# Altium footprint library Inductor_SMD.PcbLib: 259 footprints (part 9 of 17)
Each footprint in its own frame and in the unit in brackets; x right, y up, seen from the top. Pads: shape width x height; smd on the part's side, far side on the other; paste and mask are expansions set on the pad; w line width, h text height; cw(c..) or ccw(c..) is an arc to the next point about the centre after c.
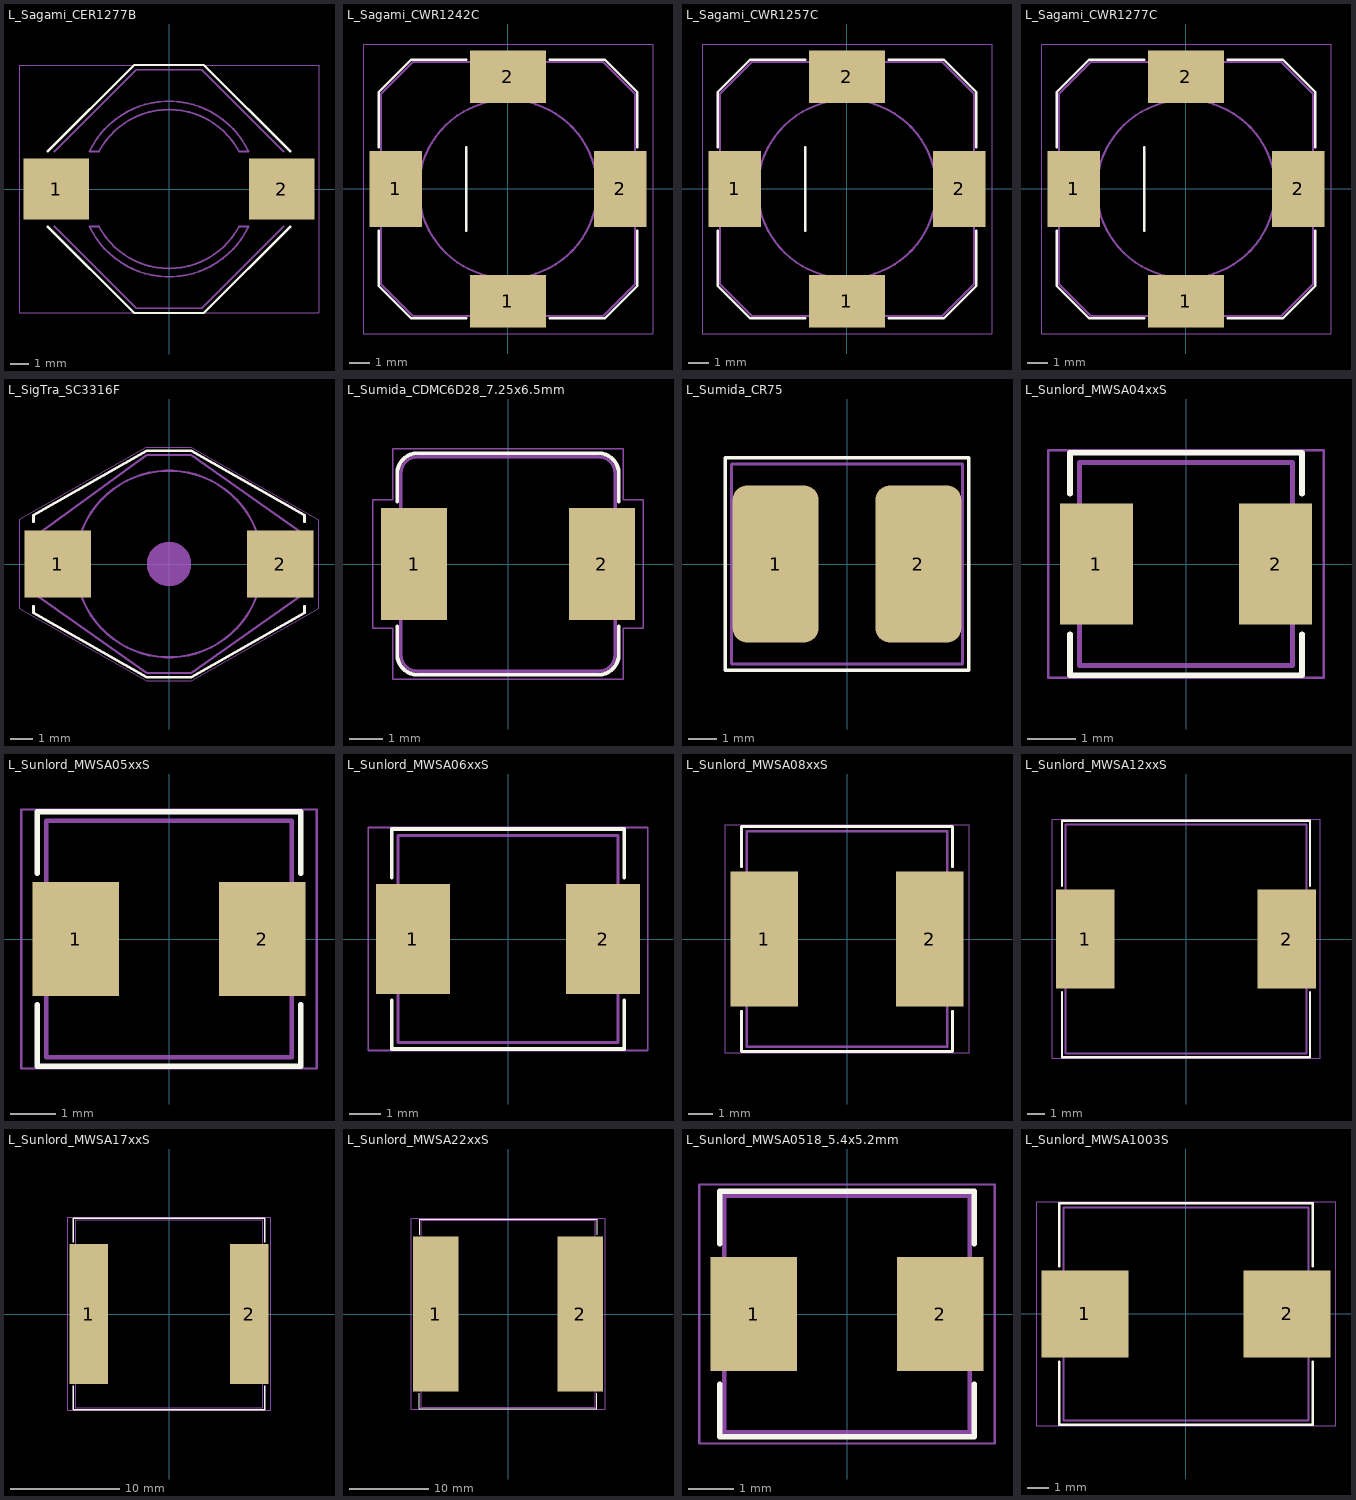
[diagram p8: the footprints below, top view; thin cyan lines are the x and y axes]

## L_Sagami_CER1277B [mm]
pads (2):
  rect 3.55x3.3 smd: 1(-6.125,0) 2(6.125,0)
F.SilkS:
  lines w0.12: -6.604,-2.032 -1.905,-6.731 1.905,-6.731 6.604,-2.032 ; -6.604,2.032 -1.905,6.731 1.905,6.731 6.604,2.032
F.CrtYd:
  lines w0.05: -8.15,-6.73 8.15,-6.73 8.15,6.73 -8.15,6.73 -8.15,-6.73
F.Fab:
  lines w0.1: -6.223,-2.032 -1.778,-6.477 1.778,-6.477 6.223,-2.032 ; -6.223,2.032 -1.778,6.477 1.778,6.477 6.223,2.032 ; -2.032,-4.318 ccw(c0,0) 4.318,-2.032 3.81,-2.032 cw(c0,0) -2.032,-3.81 ; -2.032,3.81 cw(c0,0) 3.81,2.032 4.318,2.032 ccw(c0,0) -2.032,4.318 ; 2.032,-4.318 cw(c0,0) -4.318,-2.032 -3.81,-2.032 ccw(c0,0) 2.032,-3.81 ; 2.032,3.81 ccw(c0,0) -3.81,2.032 -4.318,2.032 cw(c0,0) 2.032,4.318
  text "'.Designator'" at -4.047,-0.84 h1

## L_Sagami_CWR1242C [mm]
pads (4):
  rect 2.5x3.6 smd: 1(-5.35,0) 2(5.35,0)
  rect 3.6x2.5 smd: 1(0,-5.35) 2(0,5.35)
F.SilkS:
  lines w0.12: -6.17,-2 -6.17,-4.61 -4.61,-6.17 -2,-6.17 ; -6.17,2 -6.17,4.61 -4.61,6.17 -2,6.17 ; -2,-2 -2,2 ; 2,-6.17 4.61,-6.17 6.17,-4.61 6.17,-2 ; 2,6.17 4.61,6.17 6.17,4.61 6.17,2
F.CrtYd:
  lines w0.05: -6.9,-6.9 -6.9,6.9 6.9,6.9 6.9,-6.9 -6.9,-6.9
F.Fab:
  circle w0.1: c0,0 r4.25
  lines w0.1: -6.05,-4.55 -6.05,4.55 -4.55,6.05 4.55,6.05 6.05,4.55 6.05,-4.55 4.55,-6.05 -4.55,-6.05 -6.05,-4.55
  text "'.Designator'" at -3.997,-0.79 h1

## L_Sagami_CWR1257C [mm]
pads (4):
  rect 2.5x3.6 smd: 1(-5.35,0) 2(5.35,0)
  rect 3.6x2.5 smd: 1(0,-5.35) 2(0,5.35)
F.SilkS:
  lines w0.12: -6.17,-2 -6.17,-4.61 -4.61,-6.17 -2,-6.17 ; -6.17,2 -6.17,4.61 -4.61,6.17 -2,6.17 ; -2,-2 -2,2 ; 2,-6.17 4.61,-6.17 6.17,-4.61 6.17,-2 ; 2,6.17 4.61,6.17 6.17,4.61 6.17,2
F.CrtYd:
  lines w0.05: -6.9,-6.9 6.9,-6.9 6.9,6.9 -6.9,6.9 -6.9,-6.9
F.Fab:
  circle w0.1: c0,0 r4.25
  lines w0.1: -6.05,-4.55 -4.55,-6.05 4.55,-6.05 6.05,-4.55 6.05,4.55 4.55,6.05 -4.55,6.05 -6.05,4.55 -6.05,-4.55
  text "'.Designator'" at -3.997,-0.79 h1

## L_Sagami_CWR1277C [mm]
pads (4):
  rect 2.5x3.6 smd: 1(-5.35,0) 2(5.35,0)
  rect 3.6x2.5 smd: 1(0,-5.35) 2(0,5.35)
F.SilkS:
  lines w0.12: -6.17,-2 -6.17,-4.61 -4.61,-6.17 -2,-6.17 ; -6.17,2 -6.17,4.61 -4.61,6.17 -2,6.17 ; -2,-2 -2,2 ; 2,-6.17 4.61,-6.17 6.17,-4.61 6.17,-2 ; 2,6.17 4.61,6.17 6.17,4.61 6.17,2
F.CrtYd:
  lines w0.05: -6.9,-6.9 -6.9,6.9 6.9,6.9 6.9,-6.9 -6.9,-6.9
F.Fab:
  circle w0.1: c0,0 r4.25
  lines w0.1: -6.05,-4.55 -6.05,4.55 -4.55,6.05 4.55,6.05 6.05,4.55 6.05,-4.55 4.55,-6.05 -4.55,-6.05 -6.05,-4.55
  text "'.Designator'" at -3.997,-0.79 h1

## L_SigTra_SC3316F [mm]
pads (2):
  rect 3x3 smd: 1(-5,0) 2(5,0)
F.SilkS:
  lines w0.12: -6.1,-1.9 -6.1,-2.2 -1,-5.1 1,-5.1 6.1,-2.2 6.1,-1.9 ; -6.1,1.9 -6.1,2.2 -1,5.1 1,5.1 6.1,2.2 6.1,1.9
F.CrtYd:
  lines w0.05: -6.75,-2 -6.75,2 -1,5.25 1,5.25 6.75,2 6.75,-2 1,-5.25 -1,-5.25 -6.75,-2
F.Fab:
  circle w0.1: c0,0 r4.2
  lines w0.1: -6.1,-1.3 -3.6,-1.3 -3.6,0 -3.6,1.2 -6.1,1.2 ; -6.1,-1.3 -1,-4.9 1,-4.9 6.1,-1.3 ; -6.1,-1.3 -6.1,1.2 ; -6.1,1.2 -1,4.9 1,4.9 6.1,1.3 ; 6.1,-1.3 3.6,-1.3 3.6,1.3 6.1,1.3 ; 6.1,-1.3 6.1,1.3
  text "'.Designator'" at -4.047,-0.84 h1
F.Adhes:
  circle w1: c0,0 r0.5

## L_Sumida_CDMC6D28_7.25x6.5mm [mm]
pads (2):
  rect 2x3.4 smd: 1(-2.85,0) 2(2.85,0)
F.SilkS:
  lines w0.12: -3.36,-1.9 -3.36,-2.75 ccw(c-2.75,-2.75) -2.75,-3.36 2.75,-3.36 ccw(c2.75,-2.75) 3.36,-2.75 3.36,-1.9 ; -3.36,1.9 -3.36,2.75 cw(c-2.75,2.75) -2.75,3.36 2.75,3.36 cw(c2.75,2.75) 3.36,2.75 3.36,1.9
F.CrtYd:
  lines w0.05: -4.1,-1.95 -4.1,1.95 -3.5,1.95 -3.5,3.5 3.5,3.5 3.5,1.95 4.1,1.95 4.1,-1.95 3.5,-1.95 3.5,-3.5 -3.5,-3.5 -3.5,-1.95 -4.1,-1.95
F.Fab:
  lines w0.1: -3.25,-2.75 -3.25,2.75 cw(c-2.75,2.75) -2.75,3.25 2.75,3.25 cw(c2.75,2.75) 3.25,2.75 3.25,-2.75 cw(c2.75,-2.75) 2.75,-3.25 -2.75,-3.25 cw(c-2.75,-2.75) -3.25,-2.75
  text "'.Designator'" at -4.047,-0.84 h1

## L_Sumida_CR75 [mm]
pads (2):
  rrect33% 3x5.5 smd: 1(-2.5,0) 2(2.5,0)
F.SilkS:
  lines w0.12: -4.26,-3.72 4.26,-3.72 4.26,3.72 -4.26,3.72 -4.26,-3.72
F.CrtYd:
  lines w0.05: -4.25,-3.75 -4.25,3.75 4.25,3.75 4.25,-3.75 -4.25,-3.75
F.Fab:
  lines w0.1: -4.04,-3.5 4.04,-3.5 4.04,3.5 -4.04,3.5 -4.04,-3.5
  text "'.Designator'" at -4.047,-0.76 h1

## L_Sunlord_MWSA04xxS [mm]
pads (2):
  rect 1.5x2.5 smd: 1(-1.85,0) 2(1.85,0)
F.SilkS:
  lines w0.12: -2.4,-1.45 -2.4,-2.3 2.4,-2.3 2.4,-1.45 ; -2.4,1.45 -2.4,2.3 2.4,2.3 2.4,1.45
F.CrtYd:
  lines w0.05: -2.85,-2.35 -2.85,2.35 2.85,2.35 2.85,-2.35 -2.85,-2.35
F.Fab:
  lines w0.1: -2.2,-2.1 -2.2,2.1 2.2,2.1 2.2,-2.1 -2.2,-2.1
  text "'.Designator'" at -2.023,-0.42 h0.5

## L_Sunlord_MWSA05xxS [mm]
pads (2):
  rect 1.9x2.5 smd: 1(-2.05,0) 2(2.05,0)
F.SilkS:
  lines w0.12: -2.9,-1.45 -2.9,-2.8 2.9,-2.8 2.9,-1.45 ; -2.9,1.45 -2.9,2.8 2.9,2.8 2.9,1.45
F.CrtYd:
  lines w0.05: -3.25,-2.85 -3.25,2.85 3.25,2.85 3.25,-2.85 -3.25,-2.85
F.Fab:
  lines w0.1: -2.7,-2.6 -2.7,2.6 2.7,2.6 2.7,-2.6 -2.7,-2.6
  text "'.Designator'" at -2.563,-0.532 h0.63

## L_Sunlord_MWSA06xxS [mm]
pads (2):
  rect 2.35x3.5 smd: 1(-3.025,0) 2(3.025,0)
F.SilkS:
  lines w0.12: -3.7,-1.95 -3.7,-3.5 3.7,-3.5 3.7,-1.95 ; -3.7,1.95 -3.7,3.5 3.7,3.5 3.7,1.95
F.CrtYd:
  lines w0.05: -4.45,-3.55 -4.45,3.55 4.45,3.55 4.45,-3.55 -4.45,-3.55
F.Fab:
  lines w0.1: -3.5,-3.3 -3.5,3.3 3.5,3.3 3.5,-3.3 -3.5,-3.3
  text "'.Designator'" at -3.17,-0.658 h0.78

## L_Sunlord_MWSA08xxS [mm]
pads (2):
  rect 2.75x5.5 smd: 1(-3.375,0) 2(3.375,0)
F.SilkS:
  lines w0.12: -4.3,-2.95 -4.3,-4.6 4.3,-4.6 4.3,-2.95 ; -4.3,2.95 -4.3,4.6 4.3,4.6 4.3,2.95
F.CrtYd:
  lines w0.05: -5,-4.65 -5,4.65 5,4.65 5,-4.65 -5,-4.65
F.Fab:
  lines w0.1: -4.1,-4.4 -4.1,4.4 4.1,4.4 4.1,-4.4 -4.1,-4.4
  text "'.Designator'" at -3.71,-0.77 h0.92

## L_Sunlord_MWSA12xxS [mm]
pads (2):
  rect 3.25x5.5 smd: 1(-5.625,0) 2(5.625,0)
F.SilkS:
  lines w0.12: -6.925,-2.95 -6.925,-6.6 6.925,-6.6 6.925,-2.95 ; -6.925,2.95 -6.925,6.6 6.925,6.6 6.925,2.95
F.CrtYd:
  lines w0.05: -7.5,-6.65 -7.5,6.65 7.5,6.65 7.5,-6.65 -7.5,-6.65
F.Fab:
  lines w0.1: -6.725,-6.4 -6.725,6.4 6.725,6.4 6.725,-6.4 -6.725,-6.4
  text "'.Designator'" at -4.047,-0.84 h1

## L_Sunlord_MWSA17xxS [mm]
pads (2):
  rect 3.5x12.8 smd: 1(-7.35,0) 2(7.35,0)
F.SilkS:
  lines w0.12: -8.775,-6.6 -8.775,-8.775 8.775,-8.775 8.775,-6.6 ; -8.775,6.6 -8.775,8.775 8.775,8.775 8.775,6.6
F.CrtYd:
  lines w0.05: -9.35,-8.82 -9.35,8.82 9.35,8.82 9.35,-8.82 -9.35,-8.82
F.Fab:
  lines w0.1: -8.575,-8.575 -8.575,8.575 8.575,8.575 8.575,-8.575 -8.575,-8.575
  text "'.Designator'" at -4.047,-0.84 h1

## L_Sunlord_MWSA22xxS [mm]
pads (2):
  rect 5.75x19.6 smd: 1(-9.125,0) 2(9.125,0)
F.SilkS:
  lines w0.12: -11.2,-10 -11.2,-11.95 11.2,-11.95 11.2,-10 ; -11.2,10 -11.2,11.95 11.2,11.95 11.2,10
F.CrtYd:
  lines w0.05: -12.25,-12 -12.25,12 12.25,12 12.25,-12 -12.25,-12
F.Fab:
  lines w0.1: -11,-11.75 -11,11.75 11,11.75 11,-11.75 -11,-11.75
  text "'.Designator'" at -4.047,-0.84 h1

## L_Sunlord_MWSA0518_5.4x5.2mm [mm]
pads (2):
  rect 1.9x2.5 smd: 1(-2.05,0) 2(2.05,0)
F.SilkS:
  lines w0.12: -2.8,-1.55 -2.8,-2.7 2.8,-2.7 2.8,-1.55 ; -2.8,1.55 -2.8,2.7 2.8,2.7 2.8,1.55
F.CrtYd:
  lines w0.05: -3.25,-2.85 3.25,-2.85 3.25,2.85 -3.25,2.85 -3.25,-2.85
F.Fab:
  lines w0.1: -2.7,-2.6 2.7,-2.6 2.7,2.6 -2.7,2.6 -2.7,-2.6
  text "'.Designator'" at -4.047,-0.84 h1

## L_Sunlord_MWSA1003S [mm]
pads (2):
  rect 4.1x4.1 smd: 1(-4.75,0) 2(4.75,0)
F.SilkS:
  lines w0.12: -5.95,-2.25 -5.95,-5.2 5.95,-5.2 5.95,-2.25 ; -5.95,2.25 -5.95,5.2 5.95,5.2 5.95,2.25
F.CrtYd:
  lines w0.05: -7.05,-5.25 -7.05,5.25 7.05,5.25 7.05,-5.25 -7.05,-5.25
F.Fab:
  lines w0.1: -5.75,-5 -5.75,5 5.75,5 5.75,-5 -5.75,-5
  text "'.Designator'" at -4.047,-0.84 h1